# Altium footprint library CON20_2X10_1.27mm_SMD_Male.PcbLib: 1 footprints
Each footprint in its own frame and in the unit in brackets; x right, y up, seen from the top. Pads: shape width x height; smd on the part's side, far side on the other; paste and mask are expansions set on the pad; w line width, h text height; cw(c..) or ccw(c..) is an arc to the next point about the centre after c.
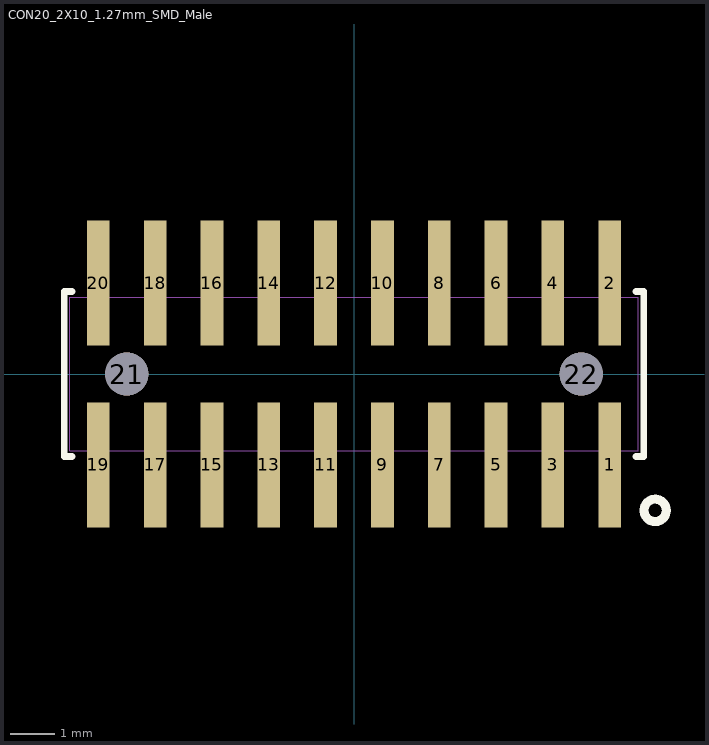
[diagram p0: the footprint, top view; thin cyan lines are the x and y axes]

## CON20_2X10_1.27mm_SMD_Male [mil] "1.27mm pitch, 20 position female header. SAM11274-ND"
pads (22):
  rect 20x110 smd: 1(225,-80) 2(225,80) 3(175,-80) 4(175,80) 5(125,-80) 6(125,80) 7(75,-80) 8(75,80) 9(25,-80) 10(25,80) 11(-25,-80) 12(-25,80) 13(-75,-80) 14(-75,80) 15(-125,-80) 16(-125,80) 17(-175,-80) 18(-175,80) 19(-225,-80) 20(-225,80)
  round 38 / inner round 60 / far side round 38 hole 38: 21(-200,0) 22(200,0)
Top Overlay:
  circle w7.87: c265,-120 r9.84
  lines w6: -248.1,-72.5 -255,-72.5 -255,72.5 -248.1,72.5 ; 248.1,-72.5 255,-72.5 255,72.5 248.1,72.5
Mechanical 13:
  lines w1: -250,-67.5 -250,67.5 250,67.5 250,-67.5 -250,-67.5
3D body "SAM11274-ND - 2X10 Male 50mil SMD v1.step": height 264.62, standoff -0.38, extent -249.02,-116.14 250.99,113.86